# EAGLE library part MICRO-SDCARD-CONNECTOR (library OPL5)
Micro SD Card
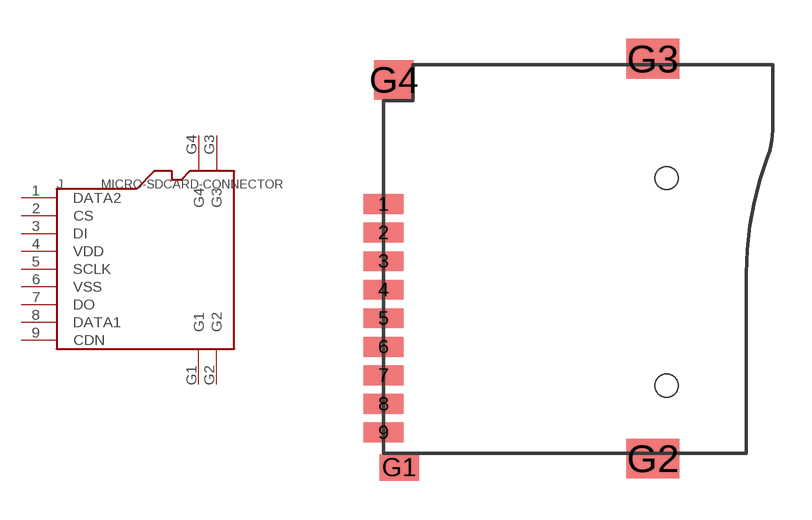
[diagram p10: symbol with the pads of 9P-SMD-W-RING; footprint 9P-SMD-W-RING]

Designator prefix J

## MICRO-SDCARD-CONNECTOR-3300060P1  [9P-SMD-W-RING]
1  DATA2  out
2  CS  out
3  DI  out
4  VDD  out
5  SCLK  out
6  VSS  out
7  DO  out
8  DATA1  out
9  CDN  out
G1  G1  out
G2  G2  out
G3  G3  out
G4  G4  out

## Footprint 9P-SMD-W-RING (pad centres in mm)
smd 1.524 x 0.762: 1 -7.493,2.114; 2 -7.493,1.014; 3 -7.493,-0.086; 4 -7.493,-1.186; 5 -7.493,-2.286; 6 -7.493,-3.386; 7 -7.493,-4.486; 8 -7.493,-5.586; 9 -7.493,-6.686
smd 1.524 x 1.016: G1 -6.893,-8.032
smd 2.032 x 1.524: G2 2.88,-7.686; G3 2.88,7.714
smd 1.524 x 1.524: G4 -7.101,6.895
hole 0.889 at 3.407,-4.886
hole 0.889 at 3.407,3.114